# Altium footprint library 45° Shielded Modular Jack.PcbLib: 2 footprints
Each footprint in its own frame and in the unit in brackets; x right, y up, seen from the top. Pads: shape width x height; smd on the part's side, far side on the other; paste and mask are expansions set on the pad; w line width, h text height; cw(c..) or ccw(c..) is an arc to the next point about the centre after c.
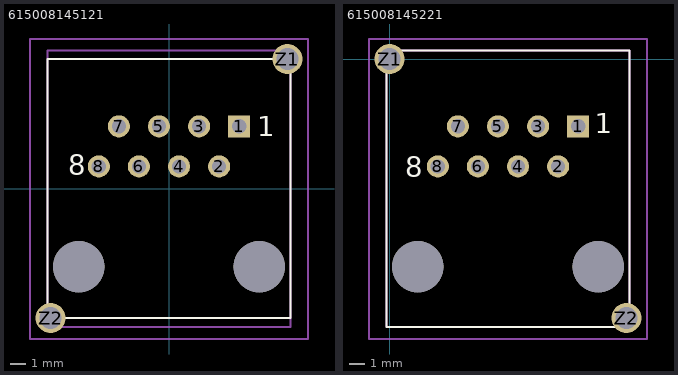
[diagram p0: the footprints below, top view; thin cyan lines are the x and y axes]

## 615008145121 [mm] "45° Shielded 1x1 TH  8P8C Reverse White"
height 20.9
pads (12):
  rect 1.4x1.4 hole 0.9: 1(4.445,3.94)
  round 1.4 hole 0.9: 2(3.175,1.4) 3(1.905,3.94) 4(0.635,1.4) 5(-0.635,3.94) 6(-1.905,1.4) 7(-3.175,3.94) 8(-4.445,1.4)
  round 1.9 hole 1.4: Z1(7.5,8.2) Z2(-7.5,-8.2)
  round 3.25 hole 3.25 unplated: ""(-5.715,-4.95) ""(5.715,-4.95)
Top Overlay:
  lines w0.127: -7.7,-8.2 7.7,-8.2 7.7,8.2 -7.7,8.2 -7.7,-8.2
  text "1" at 5.605,3.32 h1.27
  text "8" at -6.385,0.86 h1.27
Mechanical 13:
  lines w0.127: -7.7,-8.76 7.7,-8.76 7.7,8.727 -7.7,8.727 -7.7,-8.76
Mechanical 15:
  lines w0.127: -8.8,-9.53 -8.8,9.47 8.8,9.47 8.8,-9.53 -8.8,-9.53
3D body: height 21.04, standoff -4.06, extent -7.7,-8.76 7.7,8.727

## 615008145221 [mm] "45° Shielded 1x1 TH  8P8C Standard White"
height 20.9
pads (12):
  rect 1.4x1.4 hole 0.9: 1(11.945,-4.26)
  round 1.4 hole 0.9: 2(10.675,-6.8) 3(9.405,-4.26) 4(8.135,-6.8) 5(6.865,-4.26) 6(5.595,-6.8) 7(4.325,-4.26) 8(3.055,-6.8)
  round 1.9 hole 1.4: Z1(0,0) Z2(15,-16.4)
  round 3.25 hole 3.25 unplated: ""(1.785,-13.15) ""(13.215,-13.15)
Top Overlay:
  lines w0.127: -0.2,-16.96 -0.2,0.527 15.2,0.527 15.2,-16.96 -0.2,-16.96
  text "8" at 1,-7.45 h1.27
  text "1" at 13,-4.7 h1.27
Mechanical 13:
  lines w0.127: -0.2,-16.96 15.2,-16.96 15.2,0.527 -0.2,0.527 -0.2,-16.96
Mechanical 15:
  lines w0.127: -1.3,-17.73 -1.3,1.27 16.3,1.27 16.3,-17.73 -1.3,-17.73
3D body: height 4.01, standoff -21.09, extent -0.2,-16.96 15.2,0.527